# Altium footprint library PCB_USB.PcbLib: 8 footprints
Each footprint in its own frame and in the unit in brackets; x right, y up, seen from the top. Pads: shape width x height; smd on the part's side, far side on the other; paste and mask are expansions set on the pad; w line width, h text height; cw(c..) or ccw(c..) is an arc to the next point about the centre after c.
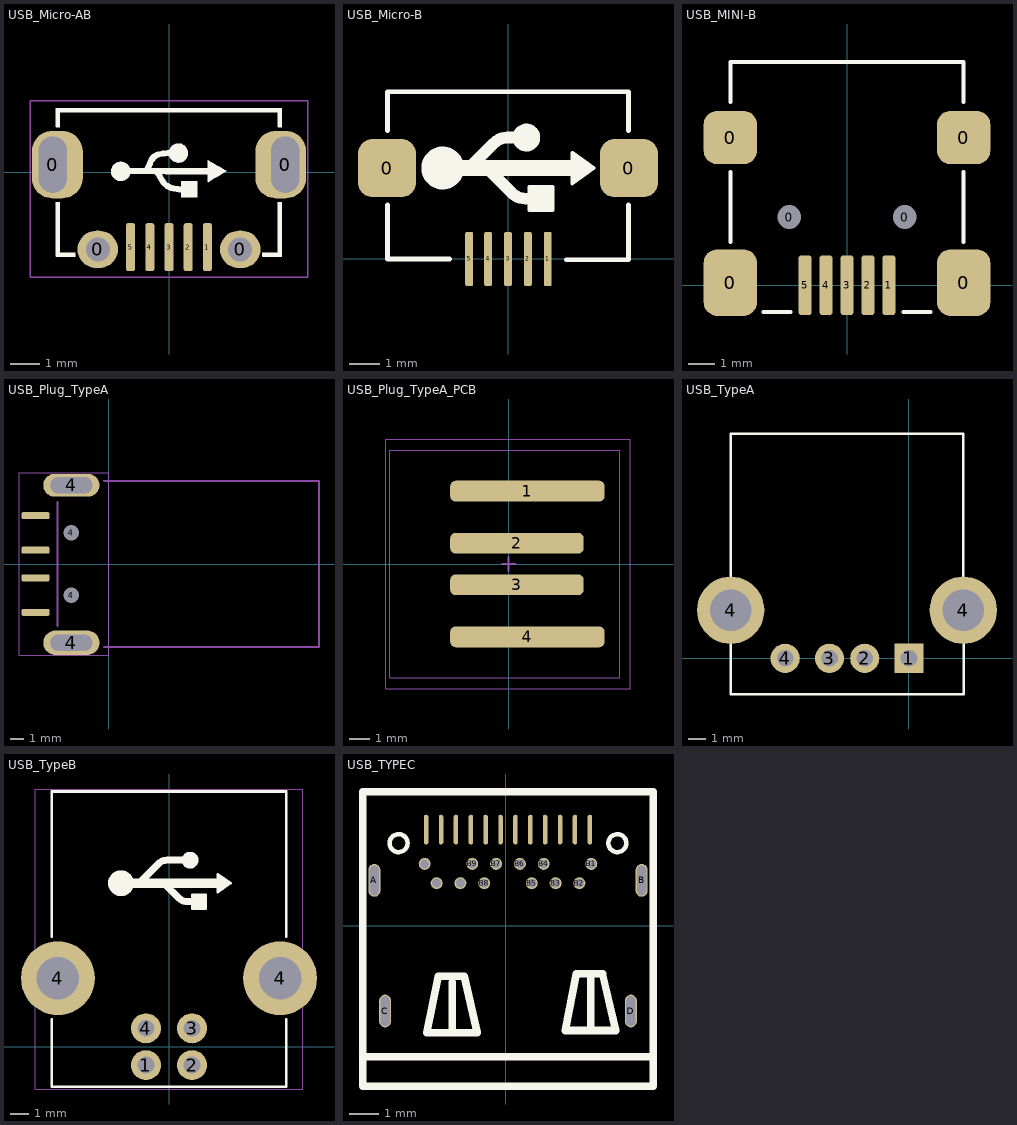
[diagram p0: the footprints below, top view; thin cyan lines are the x and y axes]

## USB_Micro-AB [mil]
height 153.54
pads (9):
  rrect80% 68x90 hole 37 slot 75 at 90 deg copper offset 6,0 mask+0: 0(-155,10)
  oval 54x50 hole 32 mask+0: 0(-95,-103) 0(95,-103)
  rrect80% 68x90 hole 37 slot 75 at 90 deg copper offset -6,0 mask+0: 0(155,10)
  rrect50% 12x64 smd: 1(51.18,-100) 2(25.59,-100) 3(0,-100) 4(-25.59,-100) 5(-51.18,-100)
Top Overlay:
  drawing of 24 lines, arcs and shapes, not listed
T-Component:
  lines w2: -185,-140 185,-140 185,95 -185,95 -185,-140
3D body "User Library-MicroUSB-B_Molex_105017-0001.STEP": height 108.07, standoff -21.85, extent -161.42,-109.33 161.42,104.45

## USB_Micro-B [mil]
height 153.54
pads (7):
  rrect50% 74.8x74.8 smd: 0(-155.51,116.84) 0(155.51,116.84)
  rrect50% 10x70 smd: 1(51.18,0) 2(25.59,0) 3(0,0) 4(-25.59,0) 5(-50,0)
Top Overlay:
  circle w20: c23.56,156.21 r7.87
  circle w35: c-84.07,117 r10
  region: 57.03,62.87 27.5,62.87 27.5,92.39 57.03,92.39
  region: 110.18,117 82.62,97.31 82.62,136.69
  lines w5: 27.5,62.87 57.03,62.87 57.03,92.39 27.5,92.39 27.5,62.87 ; 82.62,97.31 82.62,136.69 110.18,117 82.62,97.31
  lines w6: -155,69.8 -155,0 -75,0 ; -155,164.84 -155,215 155,215 155,164.84 ; 75,-1 155,-1 155,69.8
  lines w15: -52.85,114.46 -18.48,148.83 cw(c-0.65,131) -0.65,156.21 22.5,156.21 ; -24.7,114.54 4.83,85.01 ccw(c22.66,102.84) 22.66,77.63 42.5,77.63
  lines w20: -82.5,117 92.5,117
3D body "Micro USB.STP": height 106.7, standoff -9.04, extent -156.58,4.51 157.59,218.29

## USB_MINI-B [mil]
height 153.54
pads (11):
  rrect50% 80x100 smd: 0(-175.2,3.94) 0(175.19,3.94)
  rrect50% 80x80 smd: 0(-175.2,221.69) 0(175.19,221.69)
  round 23.62 hole 35.43 unplated: 0(-86.61,102.36) 0(86.61,102.36)
  rrect50% 20x90 smd: 1(62.99,0) 2(31.5,0) 3(0,0) 4(-31.5,0) 5(-62.99,0)
Top Overlay:
  lines w6: -175,65 -175,170 ; -175,275 -175,335 175,335 175,275 ; -125,-40 -85,-40 ; 85,-40 125,-40 ; 175,65 175,170
3D body "User Library-USB_mini_B.STEP": height 155.51, standoff -39.37, extent -210.63,-27.56 210.63,334.64

## USB_Plug_TypeA [mil]
height 177.17
pads (8):
  rrect50% 80x20 smd: 1(-208,137.8) 2(-208,39.37) 3(-208,-39.37) 4(-208,-137.8)
  round 31.5 hole 43.31 unplated: 4(-106.3,-88.58) 4(-106.3,88.58)
  oval 160x70 hole 45 slot 120 at 0 deg: 4(-106,-224)
  oval 160x65 hole 45 slot 120 at 0 deg: 4(-106,224)
Mechanical 13:
  lines w6: -145.67,-176.18 -145.67,176.18 ; -12.99,-236.22 598.43,-236.22 598.43,236.22 -12.99,236.22
T-Component:
  lines w2: -255,-260 0,-260 0,260 -255,260 -255,-260
3D body "SW3dPS-USB-Male Port.STEP": height 70, standoff -117.5, extent -145.67,-236.37 576.08,236.37

## USB_Plug_TypeA_PCB [mm]
height 3.9
pads (4):
  rrect50% 7.41x1 smd: 1(0.897,3.5) 4(0.897,-3.5)
  rrect50% 6.41x1 smd: 2(0.397,1) 3(0.397,-1)
Mechanical 13:
  lines w0.051: -5.908,-6 5.842,-6 5.842,6 -5.908,6 -5.908,-6 ; -5.715,-5.461 -5.715,5.461 5.334,5.461 5.334,-5.461 -5.715,-5.461
  lines w0.1: -0.33,0 0.33,0 ; 0,-0.33 0,0.33

## USB_TypeA [mil]
pads (6):
  rect 65x65 hole 37: 1(0,0)
  round 65 hole 37: 2(-98.5,0) 3(-177,0) 4(-275.6,0)
  round 150 hole 93: 4(-397,107) 4(121,107)
Top Overlay:
  lines w6: 121,107 121,500 -397,500 -397,107 -397,-80 122,-80 122,107
3D body "User Library-USB-A-01.step": height 274.23, standoff -164.75, extent -449.02,-45 173.03,494.37

## USB_TypeB [mm]
height 11.1
pads (6):
  round 1.626 hole 0.914 mask+0.025: 1(-1.25,-0.995) 2(1.25,-0.995) 3(1.25,1.005) 4(-1.25,1.005)
  round 4 hole 2.3 mask+0: 4(-6.02,3.715) 4(6.02,3.715)
Top Overlay:
  circle w0.889: c-2.605,8.865 r0.254
  circle w0.508: c1.145,10.115 r0.2
  region: 3.345,8.865 2.645,8.365 2.645,9.365
  region: 1.995,7.49 1.245,7.49 1.245,8.24 1.995,8.24
  lines w0.127: 1.245,7.49 1.245,8.24 1.995,8.24 1.995,7.49 1.245,7.49 ; 2.645,8.365 3.345,8.865 2.645,9.365 2.645,8.365
  lines w0.152: -6.35,1.495 -6.35,-2.159 6.35,-2.159 6.35,1.495 ; -6.35,5.969 -6.35,13.843 6.35,13.843 6.35,5.969
  lines w0.381: -1.558,8.927 -0.558,9.927 cw(c-0.105,9.474) -0.105,10.115 1.145,10.115 ; -0.208,8.802 0.542,8.052 ccw(c0.995,8.505) 0.995,7.865 1.245,7.865
  lines w0.508: -2.105,8.865 2.645,8.865
T-Component:
  lines w0.051: -7.239,-2.286 7.239,-2.286 7.239,13.97 -7.239,13.97 -7.239,-2.286
3D body "c-0292304-01-b-3d.stp": height 11.5, standoff -3.93, extent -7.194,-1.705 7.194,13.995

## USB_TYPEC [mm]
pads (28):
  oval 0.4x1.1 hole 0.3 slot 1 at 90 deg: A(-4.412,1.528) B(4.568,1.528) C(-4.052,-2.862) D(4.208,-2.862)
  oval 0.15x1 smd: A1(-2.672,3.233) A2(-2.172,3.233) A3(-1.672,3.233) A4(-1.172,3.233) A5(-0.672,3.233) A6(-0.172,3.233) A7(0.328,3.233) A8(0.828,3.233) A9(1.328,3.233) A10(1.828,3.233) A11(2.328,3.233) A12(2.828,3.233)
  round 0.4 hole 0.3: B1(2.878,2.083) B2(2.478,1.433) B3(1.678,1.433) B4(1.278,2.083) B5(0.878,1.433) B6(0.478,2.083) B7(-0.322,2.083) B8(-0.722,1.433) B9(-1.122,2.083) B10(-1.522,1.433) B11(-2.322,1.433) B12(-2.722,2.083)
Top Overlay:
  circle w0.15: c-3.597,2.778 r0.301
  circle w0.15: c3.753,2.778 r0.301
  lines w0.254: -4.797,-5.092 -4.797,-5.392 ; -4.797,-4.392 4.953,-4.392 ; -4.797,4.478 -4.797,-5.392 ; -4.797,4.508 4.953,4.508 ; -4.097,-4.392 3.953,-4.392 ; -1.797,-3.592 -1.797,-1.892 ; 2.853,-3.516 2.853,-1.616 ; 4.953,4.478 4.953,-5.392 -4.797,-5.392 ; -2.647,-3.592 -2.272,-1.692 -1.397,-1.692 -0.952,-3.592 -2.647,-3.592 ; 2.003,-3.516 3.698,-3.516 3.253,-1.616 2.378,-1.616 2.003,-3.516
3D body: height 2.5, standoff 2, extent -4.42,-5.667 4.555,4.733
3D body: height 2.58, standoff 1.32, extent -5.047,-5.667 -3.792,4.733
3D body: height 2.53, standoff 1.27, extent 3.928,-5.667 5.183,4.733
3D body: height 2, standoff 0.1, extent -5.072,-5.642 -3.797,4.758
3D body: height 2, standoff 0.1, extent 3.903,-5.667 5.178,4.733
3D body: height 0.1, standoff 0, extent -2.797,2.733 -2.547,3.733
3D body: height 0, standoff -1, extent -2.871,1.933 -2.572,2.233
3D body: height 0, standoff -1, extent -1.271,1.933 -0.972,2.233
3D body: height 0, standoff -1, extent -0.471,1.933 -0.172,2.233
3D body: height 0, standoff -1, extent 0.329,1.933 0.628,2.233
3D body: height 0, standoff -1, extent 1.129,1.933 1.428,2.233
3D body: height 0, standoff -1, extent 2.729,1.933 3.028,2.233
3D body: height 0, standoff -1, extent 2.329,1.283 2.628,1.583
3D body: height 0, standoff -1, extent 1.529,1.283 1.828,1.583
3D body: height 0, standoff -1, extent 0.729,1.283 1.028,1.583
3D body: height 0, standoff -1, extent -0.871,1.283 -0.572,1.583
3D body: height 0, standoff -1, extent -1.671,1.283 -1.372,1.583
3D body: height 0, standoff -1, extent -2.471,1.283 -2.172,1.583
3D body: height 0.1, standoff 0, extent -2.297,2.733 -2.047,3.733
3D body: height 0.1, standoff 0, extent -1.797,2.733 -1.547,3.733
3D body: height 0.1, standoff 0, extent -1.297,2.733 -1.047,3.733
3D body: height 0.1, standoff 0, extent -0.797,2.733 -0.547,3.733
3D body: height 0.1, standoff 0, extent -0.297,2.733 -0.047,3.733
3D body: height 0.1, standoff 0, extent 0.203,2.733 0.453,3.733
3D body: height 0.1, standoff 0, extent 0.703,2.733 0.953,3.733
3D body: height 0.1, standoff 0, extent 1.178,2.733 1.428,3.733
3D body: height 0.1, standoff 0, extent 1.703,2.733 1.953,3.733
3D body: height 0.1, standoff 0, extent 2.178,2.708 2.428,3.708
3D body: height 0.1, standoff 0, extent 2.703,2.733 2.953,3.733
3D body: height 0.1, standoff -1, extent -4.537,1.028 -4.287,2.028
3D body: height 0.1, standoff -1, extent 4.443,1.028 4.693,2.028
3D body: height 0.1, standoff -1, extent -4.177,-3.362 -3.927,-2.362
3D body: height 0.1, standoff -1, extent 4.083,-3.362 4.333,-2.362
3D body: height 2.5, standoff 2, extent 2.003,-3.517 3.678,-1.667
3D body: height 2.5, standoff 2, extent -2.66,-3.542 -0.985,-1.692